# Altium schematic symbol library SCH - MCU - NUVOTON - NUVOTON M453VE6AE.SchLib: 1 symbol
Pins are listed as number, name and electrical type; pins without a type are passive.

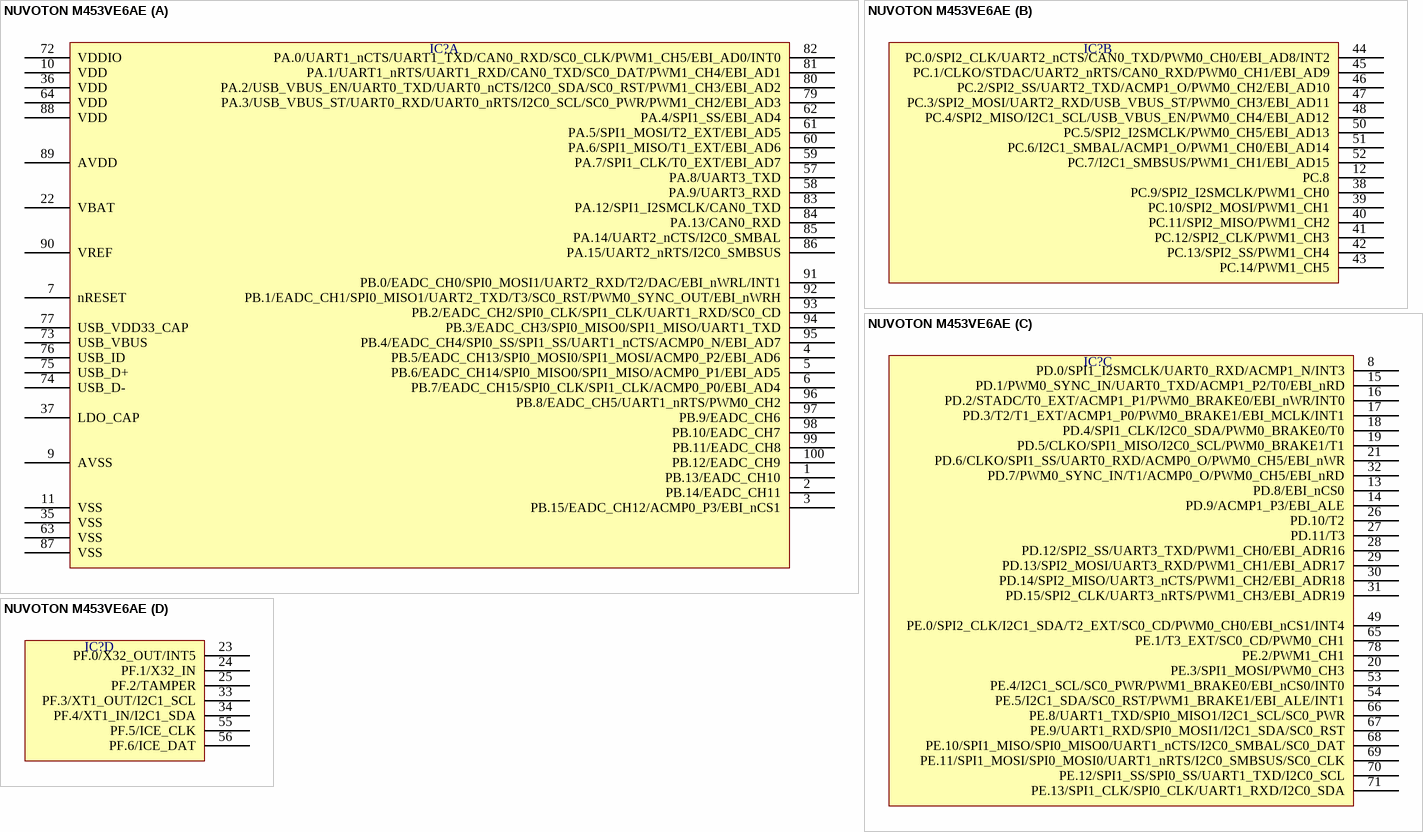
[diagram p0: symbol NUVOTON M453VE6AE]

## NUVOTON M453VE6AE
designator IC?  (value not drawn)
part A pins: 1 PB.13/EADC_CH10, 2 PB.14/EADC_CH11, 3 PB.15/EADC_CH12/ACMP0_P3/EBI_nCS1, 4 PB.5/EADC_CH13/SPI0_MOSI0/SPI1_MOSI/ACMP0_P2/EBI_AD6, 5 PB.6/EADC_CH14/SPI0_MISO0/SPI1_MISO/ACMP0_P1/EBI_AD5, 6 PB.7/EADC_CH15/SPI0_CLK/SPI1_CLK/ACMP0_P0/EBI_AD4, 7 nRESET, 9 AVSS, 10 VDD, 11 VSS, 22 VBAT, 35 VSS, 36 VDD, 37 LDO_CAP, 57 PA.8/UART3_TXD, 58 PA.9/UART3_RXD, 59 PA.7/SPI1_CLK/T0_EXT/EBI_AD7, 60 PA.6/SPI1_MISO/T1_EXT/EBI_AD6, 61 PA.5/SPI1_MOSI/T2_EXT/EBI_AD5, 62 PA.4/SPI1_SS/EBI_AD4, 63 VSS, 64 VDD, 72 VDDIO, 73 USB_VBUS, 74 USB_D-, 75 USB_D+, 76 USB_ID, 77 USB_VDD33_CAP, 79 PA.3/USB_VBUS_ST/UART0_RXD/UART0_nRTS/I2C0_SCL/SC0_PWR/PWM1_CH2/EBI_AD3, 80 PA.2/USB_VBUS_EN/UART0_TXD/UART0_nCTS/I2C0_SDA/SC0_RST/PWM1_CH3/EBI_AD2, 81 PA.1/UART1_nRTS/UART1_RXD/CAN0_TXD/SC0_DAT/PWM1_CH4/EBI_AD1, 82 PA.0/UART1_nCTS/UART1_TXD/CAN0_RXD/SC0_CLK/PWM1_CH5/EBI_AD0/INT0, 83 PA.12/SPI1_I2SMCLK/CAN0_TXD, 84 PA.13/CAN0_RXD, 85 PA.14/UART2_nCTS/I2C0_SMBAL, 86 PA.15/UART2_nRTS/I2C0_SMBSUS, 87 VSS, 88 VDD, 89 AVDD, 90 VREF, 91 PB.0/EADC_CH0/SPI0_MOSI1/UART2_RXD/T2/DAC/EBI_nWRL/INT1, 92 PB.1/EADC_CH1/SPI0_MISO1/UART2_TXD/T3/SC0_RST/PWM0_SYNC_OUT/EBI_nWRH, 93 PB.2/EADC_CH2/SPI0_CLK/SPI1_CLK/UART1_RXD/SC0_CD, 94 PB.3/EADC_CH3/SPI0_MISO0/SPI1_MISO/UART1_TXD, 95 PB.4/EADC_CH4/SPI0_SS/SPI1_SS/UART1_nCTS/ACMP0_N/EBI_AD7, 96 PB.8/EADC_CH5/UART1_nRTS/PWM0_CH2, 97 PB.9/EADC_CH6, 98 PB.10/EADC_CH7, 99 PB.11/EADC_CH8, 100 PB.12/EADC_CH9
part B pins: 12 PC.8, 38 PC.9/SPI2_I2SMCLK/PWM1_CH0, 39 PC.10/SPI2_MOSI/PWM1_CH1, 40 PC.11/SPI2_MISO/PWM1_CH2, 41 PC.12/SPI2_CLK/PWM1_CH3, 42 PC.13/SPI2_SS/PWM1_CH4, 43 PC.14/PWM1_CH5, 44 PC.0/SPI2_CLK/UART2_nCTS/CAN0_TXD/PWM0_CH0/EBI_AD8/INT2, 45 PC.1/CLKO/STDAC/UART2_nRTS/CAN0_RXD/PWM0_CH1/EBI_AD9, 46 PC.2/SPI2_SS/UART2_TXD/ACMP1_O/PWM0_CH2/EBI_AD10, 47 PC.3/SPI2_MOSI/UART2_RXD/USB_VBUS_ST/PWM0_CH3/EBI_AD11, 48 PC.4/SPI2_MISO/I2C1_SCL/USB_VBUS_EN/PWM0_CH4/EBI_AD12, 50 PC.5/SPI2_I2SMCLK/PWM0_CH5/EBI_AD13, 51 PC.6/I2C1_SMBAL/ACMP1_O/PWM1_CH0/EBI_AD14, 52 PC.7/I2C1_SMBSUS/PWM1_CH1/EBI_AD15
part C pins: 8 PD.0/SPI1_I2SMCLK/UART0_RXD/ACMP1_N/INT3, 13 PD.8/EBI_nCS0, 14 PD.9/ACMP1_P3/EBI_ALE, 15 PD.1/PWM0_SYNC_IN/UART0_TXD/ACMP1_P2/T0/EBI_nRD, 16 PD.2/STADC/T0_EXT/ACMP1_P1/PWM0_BRAKE0/EBI_nWR/INT0, 17 PD.3/T2/T1_EXT/ACMP1_P0/PWM0_BRAKE1/EBI_MCLK/INT1, 18 PD.4/SPI1_CLK/I2C0_SDA/PWM0_BRAKE0/T0, 19 PD.5/CLKO/SPI1_MISO/I2C0_SCL/PWM0_BRAKE1/T1, 20 PE.3/SPI1_MOSI/PWM0_CH3, 21 PD.6/CLKO/SPI1_SS/UART0_RXD/ACMP0_O/PWM0_CH5/EBI_nWR, 26 PD.10/T2, 27 PD.11/T3, 28 PD.12/SPI2_SS/UART3_TXD/PWM1_CH0/EBI_ADR16, 29 PD.13/SPI2_MOSI/UART3_RXD/PWM1_CH1/EBI_ADR17, 30 PD.14/SPI2_MISO/UART3_nCTS/PWM1_CH2/EBI_ADR18, 31 PD.15/SPI2_CLK/UART3_nRTS/PWM1_CH3/EBI_ADR19, 32 PD.7/PWM0_SYNC_IN/T1/ACMP0_O/PWM0_CH5/EBI_nRD, 49 PE.0/SPI2_CLK/I2C1_SDA/T2_EXT/SC0_CD/PWM0_CH0/EBI_nCS1/INT4, 53 PE.4/I2C1_SCL/SC0_PWR/PWM1_BRAKE0/EBI_nCS0/INT0, 54 PE.5/I2C1_SDA/SC0_RST/PWM1_BRAKE1/EBI_ALE/INT1, 65 PE.1/T3_EXT/SC0_CD/PWM0_CH1, 66 PE.8/UART1_TXD/SPI0_MISO1/I2C1_SCL/SC0_PWR, 67 PE.9/UART1_RXD/SPI0_MOSI1/I2C1_SDA/SC0_RST, 68 PE.10/SPI1_MISO/SPI0_MISO0/UART1_nCTS/I2C0_SMBAL/SC0_DAT, 69 PE.11/SPI1_MOSI/SPI0_MOSI0/UART1_nRTS/I2C0_SMBSUS/SC0_CLK, 70 PE.12/SPI1_SS/SPI0_SS/UART1_TXD/I2C0_SCL, 71 PE.13/SPI1_CLK/SPI0_CLK/UART1_RXD/I2C0_SDA, 78 PE.2/PWM1_CH1
part D pins: 23 PF.0/X32_OUT/INT5, 24 PF.1/X32_IN, 25 PF.2/TAMPER, 33 PF.3/XT1_OUT/I2C1_SCL, 34 PF.4/XT1_IN/I2C1_SDA, 55 PF.5/ICE_CLK, 56 PF.6/ICE_DAT